# EAGLE library part TEXAS_INSTRUMENTS-BUCK_CONTROLLER-LM5117PMHX/NOPB (library Module_Regulators)
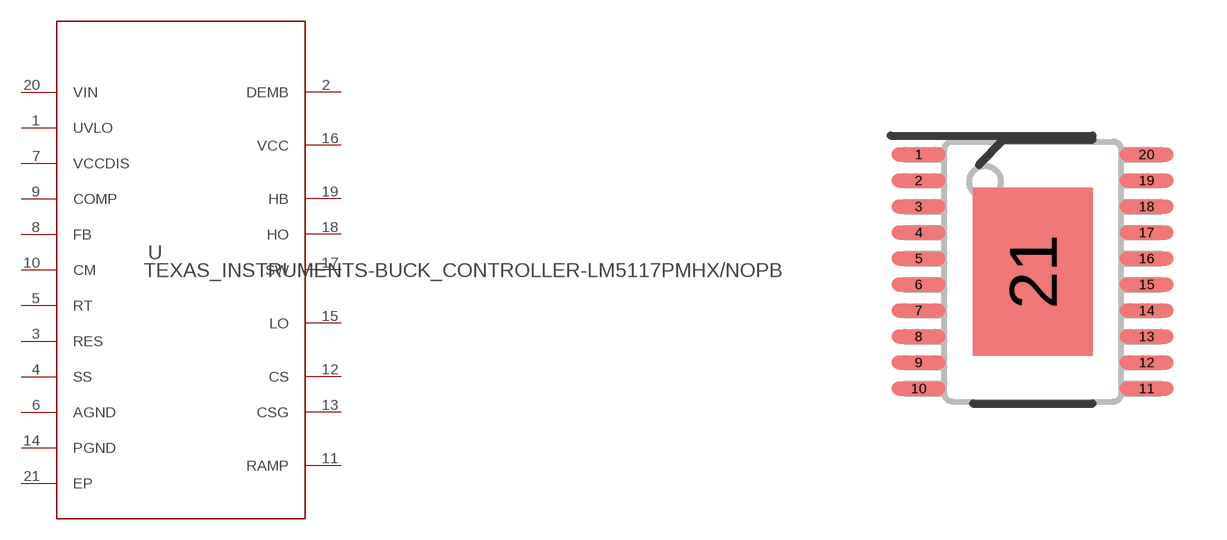
[diagram p20: symbol with the pads of TEXAS_INSTRUMENTS-BUCK_CONTROLLER-LM5117PMHX/NOPB/BUCK_BOOST_CONTROLLER-LM25118Q1MHX/NOPB; footprint TEXAS_INSTRUMENTS-BUCK_CONTROLLER-LM5117PMHX/NOPB/BUCK_BOOST_CONTROLLER-LM25118Q1MHX/NOPB]

Designator prefix U

## TEXAS_INSTRUMENTS-BUCK_CONTROLLER-LM5117PMHX/NOPB (MANUFACTURER: Texas Instruments; PARTNUMBER: LM5117PMHXNOPB; REFDES: RefDes; TYPE: TYPE; VALUE: Value)  [TEXAS_INSTRUMENTS-BUCK_CONTROLLER-LM5117PMHX/NOPB/BUCK_BOOST_CONTROLLER-LM25118Q1MHX/NOPB]
1  UVLO  in
2  DEMB  pas
3  RES  in
4  SS  in
5  RT  in
6  AGND  pwr
7  VCCDIS  pas
8  FB  in
9  COMP  out
10  CM  out
11  RAMP  in
12  CS  in
13  CSG  in
14  PGND  pwr
15  LO  out
16  VCC  pwr
17  SW  pwr
18  HO  out
19  HB  out
20  VIN  pwr
21  EP  pas

## Footprint TEXAS_INSTRUMENTS-BUCK_CONTROLLER-LM5117PMHX/NOPB/BUCK_BOOST_CONTROLLER-LM25118Q1MHX/NOPB (pad centres in mm)
smd 1.35 x 0.35: 1 -2.85,2.925; 2 -2.85,2.275; 3 -2.85,1.625; 4 -2.85,0.975; 5 -2.85,0.325; 6 -2.85,-0.325; 7 -2.85,-0.975; 8 -2.85,-1.625; 9 -2.85,-2.275; 10 -2.85,-2.925; 11 2.85,-2.925; 12 2.85,-2.275; 13 2.85,-1.625; 14 2.85,-0.975; 15 2.85,-0.325; 16 2.85,0.325; 17 2.85,0.975; 18 2.85,1.625; 19 2.85,2.275; 20 2.85,2.925
smd 3 x 4.2: 21 0,0